# Altium footprint library mySparky.PcbLib: 17 footprints (part 1 of 2)
Each footprint in its own frame and in the unit in brackets; x right, y up, seen from the top. Pads: shape width x height; smd on the part's side, far side on the other; paste and mask are expansions set on the pad; w line width, h text height; cw(c..) or ccw(c..) is an arc to the next point about the centre after c.
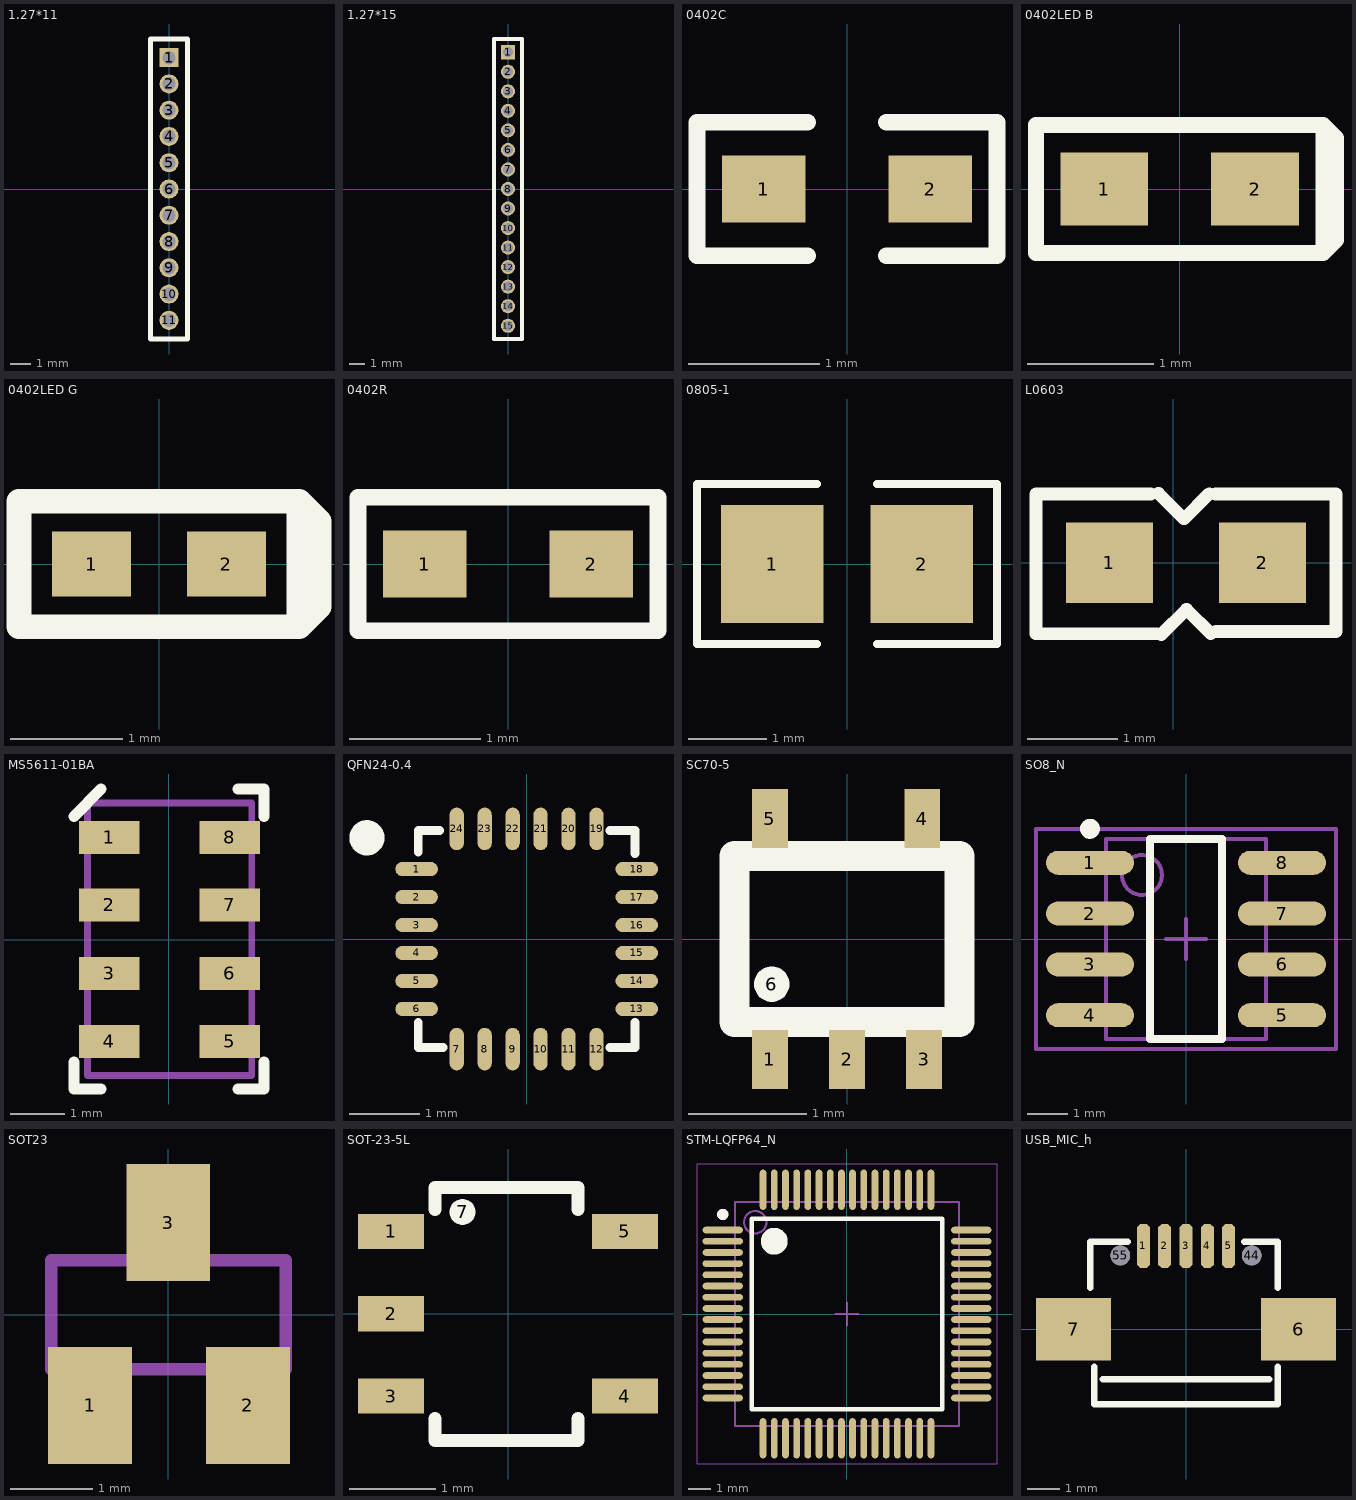
[diagram p0: the footprints below, top view; thin cyan lines are the x and y axes]

## 1.27*11 [mil]
pads (11):
  rect 36x36 hole 25.59 mask+1.18: 1(0,250)
  round 36 hole 25.59 mask+1.18: 2(0,200) 3(0,150) 4(0,100) 5(0,50) 6(0,0) 7(0,-50) 8(0,-100) 9(0,-150) 10(0,-200) 11(0,-250)
Top Overlay:
  lines w10: -35.43,-285.43 35.43,-285.43 35.43,285.43 -35.43,285.43 -35.43,-285.43

## 1.27*15 [mil]
pads (15):
  rect 36x36 hole 25.59 mask+1.18: 1(0,350)
  round 36 hole 25.59 mask+1.18: 2(0,300) 3(0,250) 4(0,200) 5(0,150) 6(0,100) 7(0,50) 8(0,0) 9(0,-50) 10(0,-100) 11(0,-150) 12(0,-200) 13(0,-250) 14(0,-300) 15(0,-350)
Top Overlay:
  lines w10: -35.43,-383.86 -35.43,383.86 35.43,383.86 35.43,-383.86 -35.43,-383.86

## 0402C [mil]
pads (2):
  rect 25x20 smd: 1(-25,0) 2(25,0)
Top Overlay:
  lines w5: -11.81,-20 -45,-20 -45,20 -11.81,20 ; 11.81,-20 45,-20 45,20 11.81,20

## 0402LED B [mm]
pads (2):
  rect 0.7x0.58 smd: 1(-0.6,0) 2(0.6,0)
Top Overlay:
  lines w0.127: 1.143,-0.508 1.245,-0.406 1.245,0.406 1.143,0.508 ; 1.143,-0.508 1.143,0.508 ; 1.143,-0.508 -1.143,-0.508 -1.143,0.508 1.143,0.508
3D body "User Library-led_0402LED0402 blue.STEP": height 0.45, standoff 0, extent -0.505,-0.25 0.505,0.25

## 0402LED G [mm]
pads (2):
  rect 0.7x0.58 smd: 1(-0.6,0) 2(0.6,0)
Top Overlay:
  lines w0.22: 1.245,-0.559 1.422,-0.381 1.422,0.381 1.245,0.559 ; 1.245,-0.559 1.245,0.559 ; 1.245,-0.559 1.245,0.559 ; 1.245,-0.559 1.245,0.559 ; 1.245,-0.559 -1.245,-0.559 -1.245,0.559 1.245,0.559
3D body "User Library-led_0402LED0402 green.STEP": height 0.45, standoff 0, extent -0.505,-0.25 0.505,0.25

## 0402R [mil]
pads (2):
  rect 25x20 smd: 1(-25,0) 2(25,0)
Top Overlay:
  lines w5: -45,-20 -45,20 15,20 45,20 45,-20 15,-20 -45,-20
Top Solder:
  lines w5: -20,20 0,20

## 0805-1 [mm]
pads (2):
  rect 1.3x1.5 smd: 1(-0.95,0) 2(0.95,0)
Top Overlay:
  lines w0.1: -0.381,-1.016 -1.905,-1.016 -1.905,1.016 -0.381,1.016 ; 0.381,-1.016 1.905,-1.016 1.905,1.016 0.381,1.016
3D body: height 1, standoff 0, extent -1.016,-0.508 1.016,0.508
3D body: height 1, standoff 0, extent 1.016,-0.508 1.143,0.508
3D body: height 1, standoff 0, extent -1.143,-0.508 -1.016,0.508

## L0603 [mil]
pads (2):
  rect 38x35 smd: 1(-28,0) 2(38.87,0)
Top Overlay:
  lines w5.51: -9.9,30 -60,30 -60,-31 -7.3,-31 ; -6.53,30.27 4.6,19.14 15.58,30.12 ; -5.3,-31.36 5.7,-20.36 16.32,-30.98 ; 18.4,30 71,30 71,-30 18.6,-30
3D body: height 20, standoff 0, extent -16,-15 28,15
3D body: height 20, standoff 0, extent 28,-15 36,15
3D body: height 20, standoff 0, extent -24,-15 -16,15

## MS5611-01BA [mil]
pads (8):
  rect 44x24 smd: 1(-43.31,74) 2(-43.31,25) 3(-43.31,-24.61) 4(-43.31,-73.82) 5(44,-73.82) 6(44,-24.61) 7(44,25) 8(44,74)
Top Overlay:
  lines w8: -68.9,-88.58 -68.9,-108.27 -49.21,-108.27 ; -68.9,89 -49.21,109 ; 50,-108.27 69,-108.27 69,-88.58 ; 50,109 69,109 69,89
Mechanical 16:
  lines w1: -59.06,-98.43 60,-98.43 60,99 -59.06,99 -59.06,-98.43
  lines w5: -59.06,-98.43 60,-98.43 60,99 -59.06,99 -59.06,-98.43
3D body "MS5611-01BA03.STEP": height 39.37, standoff -1.97, extent -59.32,-97.97 58.79,98.88

## QFN24-0.4 [mm]
pads (24):
  oval 0.61x0.203 smd: 1(-1.575,1) 2(-1.575,0.6) 3(-1.575,0.2) 4(-1.575,-0.2) 5(-1.575,-0.6) 6(-1.575,-1) 13(1.575,-1) 14(1.575,-0.6) 15(1.575,-0.2) 16(1.575,0.2) 17(1.575,0.6) 18(1.575,1)
  oval 0.203x0.61 smd: 7(-1,-1.575) 8(-0.6,-1.575) 9(-0.2,-1.575) 10(0.2,-1.575) 11(0.6,-1.575) 12(1,-1.575) 19(1,1.575) 20(0.6,1.575) 21(0.2,1.575) 22(-0.2,1.575) 23(-0.6,1.575) 24(-1,1.575)
Top Overlay:
  circle w0.25: c-2.286,1.448 r0.127
  lines w0.127: -1.55,-1.194 -1.55,-1.55 -1.194,-1.55 ; -1.55,1.245 -1.55,1.55 -1.245,1.55 ; 1.194,-1.55 1.55,-1.55 1.55,-1.194 ; 1.194,1.55 1.55,1.55 1.55,1.22

## SC70-5 [mm]
pads (6):
  rect 0.3x0.5 smd: 1(-0.65,-1.016) 2(0,-1.016) 3(0.65,-1.016) 4(0.635,1.016) 5(-0.65,1.016)
  round 0.3 on Top Overlay: 6(-0.635,-0.381)
Top Overlay:
  lines w0.254: -0.95,-0.701 -0.95,0.7 0.95,0.7 0.95,-0.7 -0.95,-0.7

## SO8_N [mm]
pads (8):
  oval 2.2x0.6 smd: 1(-2.4,1.905) 2(-2.4,0.635) 3(-2.4,-0.635) 4(-2.4,-1.905) 5(2.4,-1.905) 6(2.4,-0.635) 7(2.4,0.635) 8(2.4,1.905)
Top Overlay:
  circle w0.25: c-2.4,2.755 r0.125
  lines w0.2: -0.9,-2.5 -0.9,2.5 0.9,2.5 0.9,-2.5 -0.9,-2.5
Mechanical 13:
  circle w0.1: c-1.1,1.6 r0.5
  lines w0.1: -2,-2.5 -2,2.5 2,2.5 2,-2.5 -2,-2.5
Mechanical 15:
  lines w0.1: -0.5,0 0.5,0 ; 0,-0.5 0,0.5 ; -3.75,-2.75 -3.75,2.75 3.75,2.75 3.75,-2.75 -3.75,-2.75
3D body: height 1.75, standoff 0, extent -2,-2.5 2,2.5

## SOT23 [mil]
pads (3):
  rect 40x56 smd: 1(-37.4,-43.31) 2(38,-43.31) 3(0,44)
Mechanical 16:
  rectangle: -46,-51 -28,-28
  rectangle: 28,-51 46,-28
  rectangle: -9,28 9,51
  lines w6: -56,-26 -56,26 56,26 56,-26 -56,-26
3D body "User Library-SOT23-3.step": height 51.18, standoff 0, extent -57.09,-50.12 57.08,60.12

## SOT-23-5L [mm]
pads (6):
  rect 0.762x0.406 smd: 1(-1.35,0.95) 2(-1.35,0) 3(-1.35,-0.95) 4(1.35,-0.95) 5(1.35,0.95)
  round 0.3 on Top Overlay: 7(-0.525,1.175)
Top Overlay:
  lines w0.152: -0.842,-1.209 -0.842,-1.463 0.809,-1.463 0.809,-1.209 ; -0.842,1.204 -0.842,1.458 0.809,1.458 0.809,1.204

## STM-LQFP64_N [mm]
pads (64):
  oval 1.8x0.3 smd: 1(-5.55,3.75) 2(-5.55,3.25) 3(-5.55,2.75) 4(-5.55,2.25) 5(-5.55,1.75) 6(-5.55,1.25) 7(-5.55,0.75) 8(-5.55,0.25) 9(-5.55,-0.25) 10(-5.55,-0.75) 11(-5.55,-1.25) 12(-5.55,-1.75) 13(-5.55,-2.25) 14(-5.55,-2.75) 15(-5.55,-3.25) 16(-5.55,-3.75) 33(5.55,-3.75) 34(5.55,-3.25) 35(5.55,-2.75) 36(5.55,-2.25) 37(5.55,-1.75) 38(5.55,-1.25) 39(5.55,-0.75) 40(5.55,-0.25) 41(5.55,0.25) 42(5.55,0.75) 43(5.55,1.25) 44(5.55,1.75) 45(5.55,2.25) 46(5.55,2.75) 47(5.55,3.25) 48(5.55,3.75)
  oval 0.3x1.8 smd: 17(-3.75,-5.55) 18(-3.25,-5.55) 19(-2.75,-5.55) 20(-2.25,-5.55) 21(-1.75,-5.55) 22(-1.25,-5.55) 23(-0.75,-5.55) 24(-0.25,-5.55) 25(0.25,-5.55) 26(0.75,-5.55) 27(1.25,-5.55) 28(1.75,-5.55) 29(2.25,-5.55) 30(2.75,-5.55) 31(3.25,-5.55) 32(3.75,-5.55) 49(3.75,5.55) 50(3.25,5.55) 51(2.75,5.55) 52(2.25,5.55) 53(1.75,5.55) 54(1.25,5.55) 55(0.75,5.55) 56(0.25,5.55) 57(-0.25,5.55) 58(-0.75,5.55) 59(-1.25,5.55) 60(-1.75,5.55) 61(-2.25,5.55) 62(-2.75,5.55) 63(-3.25,5.55) 64(-3.75,5.55)
Top Overlay:
  circle w0.25: c-5.55,4.45 r0.125
  circle w0.6: c-3.25,3.25 r0.3
  lines w0.2: -4.25,-4.25 -4.25,4.25 4.25,4.25 4.25,-4.25 -4.25,-4.25
Mechanical 13:
  circle w0.1: c-4.1,4.1 r0.5
  lines w0.1: -5,-5 -5,5 5,5 5,-5 -5,-5
Mechanical 15:
  lines w0.05: -6.7,-6.7 -6.7,6.7 6.7,6.7 6.7,-6.7 -6.7,-6.7
  lines w0.1: -0.5,0 0.5,0 ; 0,-0.5 0,0.5
3D body: height 1.6, standoff 0.05, extent -5,-5 5,5

## USB_MIC_h [mm]
pads (9):
  oct 0.4x1.35 smd: 1(-1.3,2.54) 2(-0.65,2.54) 3(0,2.54) 4(0.65,2.54) 5(1.3,2.54)
  rect 2.286x1.9 smd: 6(3.429,0) 7(-3.429,0)
  round 0.6 hole 0.6 mask+0: 44(2,2.25) 55(-2,2.25)
Top Overlay:
  lines w0.2: -2.921,1.27 -2.921,2.667 -1.778,2.667 ; -2.794,-1.143 -2.794,-2.286 2.794,-2.286 2.794,-1.143 ; -2.54,-1.524 2.54,-1.524 ; 1.778,2.667 2.794,2.667 2.794,1.27